# EAGLE library part RT1720 (library analog_devices_gaui)
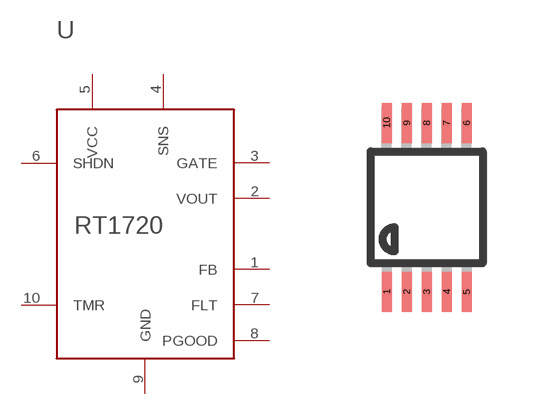
[diagram p4: symbol with the pads of MSOP10; footprint MSOP10]

Designator prefix -

## RT1720  [MSOP10]
1  FB
2  VOUT
3  GATE
4  SNS
5  VCC
6  SHDN
7  FLT
8  PGOOD
9  GND
10  TMR

## Footprint MSOP10 (pad centres in mm)
10-Lead Mini Small Outline Package [MSOP] (RM-10) Source: http://www.analog.com/UploadedFiles/Data_Sheets/35641221898805SSM2167_b.pdf COMPLIANT TO JEDEC STANDARDS MO-187BA
smd 0.25 x 1: 1 -1,-2.113; 2 -0.5,-2.113; 3 0,-2.113; 4 0.5,-2.113; 5 1,-2.113; 6 1,2.113; 7 0.5,2.113; 8 0,2.113; 9 -0.5,2.113; 10 -1,2.113